# Altium footprint library TE_1-1734248-5.PcbLib: 1 footprints
Each footprint in its own frame and in the unit in brackets; x right, y up, seen from the top. Pads: shape width x height; smd on the part's side, far side on the other; paste and mask are expansions set on the pad; w line width, h text height; cw(c..) or ccw(c..) is an arc to the next point about the centre after c.
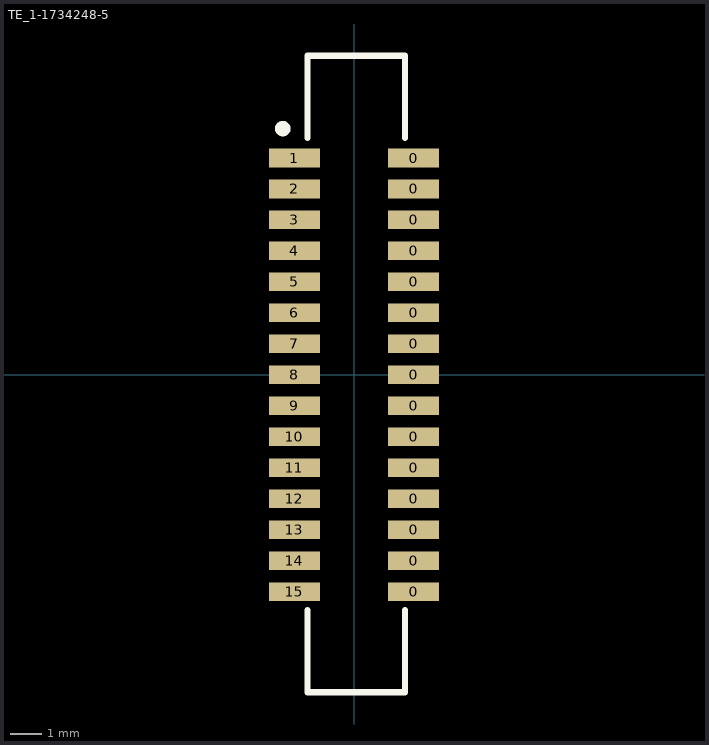
[diagram p0: the footprint, top view; thin cyan lines are the x and y axes]

## TE_1-1734248-5 [mm] "Ribbon Cable Connector"
pads (30):
  rect 1.65x0.6 smd: 0(1.925,-7) 0(1.925,-6) 0(1.925,-5) 0(1.925,-4) 0(1.925,-3) 0(1.925,-2) 0(1.925,-1) 0(1.925,0) 0(1.925,1) 0(1.925,2) 0(1.925,3) 0(1.925,4) 0(1.925,5) 0(1.925,6) 0(1.925,7) 1(-1.925,7) 2(-1.925,6) 3(-1.925,5) 4(-1.925,4) 5(-1.925,3) 6(-1.925,2) 7(-1.925,1) 8(-1.925,0) 9(-1.925,-1) 10(-1.925,-2) 11(-1.925,-3) 12(-1.925,-4) 13(-1.925,-5) 14(-1.925,-6) 15(-1.925,-7)
Top Overlay:
  circle w0.25: c-2.3,7.95 r0.125
  lines w0.2: -1.5,-7.6 -1.5,-10.25 1.65,-10.25 1.65,-7.6 ; -1.5,7.65 -1.5,10.3 1.65,10.3 1.65,7.65
3D body "TE_1-1734248-5.stp": height 5.64, standoff -0.04, extent -2.35,-11.2 2.5,11.2